# Altium footprint library SYSPCB_03.PCBLIB: 98 footprints (part 3 of 7)
Each footprint in its own frame and in the unit in brackets; x right, y up, seen from the top. Pads: shape width x height; smd on the part's side, far side on the other; paste and mask are expansions set on the pad; w line width, h text height; cw(c..) or ccw(c..) is an arc to the next point about the centre after c.
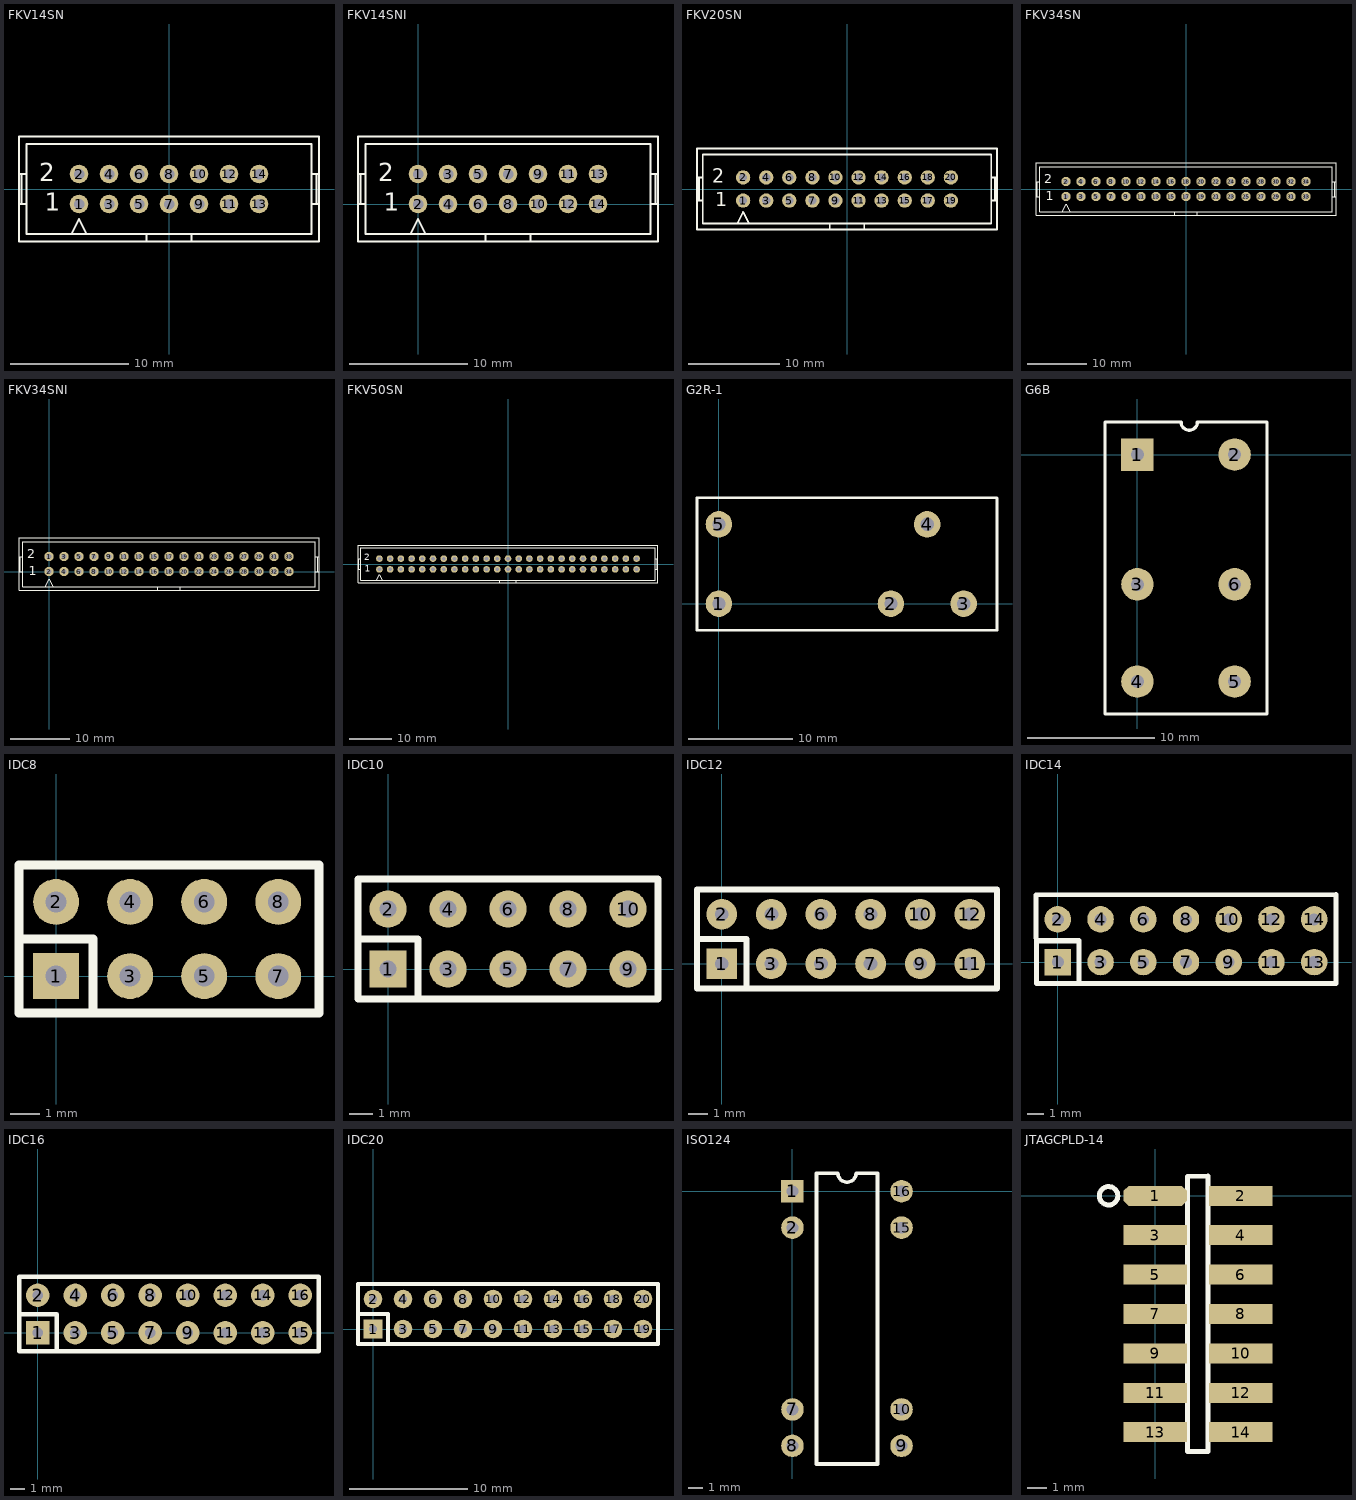
[diagram p2: the footprints below, top view; thin cyan lines are the x and y axes]

## FKV14SN [mil]
pads (14):
  round 62 hole 35: 1(-300,-50) 2(-300,50) 3(-200,-50) 4(-200,50) 5(-100,-50) 6(-100,50) 7(0,-50) 8(0,50) 9(100,-50) 10(100,50) 11(200,-50) 12(200,50) 13(300,-50) 14(300,50)
TopOverlay:
  lines w8: -500,-50 -475,-50 ; -500,50 -475,50 ; -491.67,-50 -491.67,50 ; -325,-150 -300,-100 -275,-150 ; -75,-175 -75,-150 ; 75,-175 75,-150 ; 475,-50 500,-50 ; 475,50 500,50 ; 491.67,-50 491.67,50 ; -75,-150 75,-150 ; -75,-150 -475,-150 -475,150 475,150 475,-150 75,-150 ; -500,-175 500,-175 500,175 -500,175 -500,-175
  text "2" at -432,26 h60
  text "1" at -415,-73 h60

## FKV14SNI [mil]
pads (14):
  round 62 hole 35: 1(0,100) 2(0,0) 3(100,100) 4(100,0) 5(200,100) 6(200,0) 7(300,100) 8(300,0) 9(400,100) 10(400,0) 11(500,100) 12(500,0) 13(600,100) 14(600,0)
TopOverlay:
  lines w8: -200,0 -175,0 ; -200,100 -175,100 ; -191.67,0 -191.67,100 ; -25,-100 0,-50 25,-100 ; 225,-125 225,-100 ; 375,-125 375,-100 ; 775,0 800,0 ; 775,100 800,100 ; 791.67,0 791.67,100 ; 225,-100 375,-100 ; 225,-100 -175,-100 -175,200 775,200 775,-100 375,-100 ; -200,-125 800,-125 800,225 -200,225 -200,-125
  text "2" at -132,76 h60
  text "1" at -115,-23 h60

## FKV20SN [mil]
pads (20):
  round 62 hole 35: 1(-450,-50) 2(-450,50) 3(-350,-50) 4(-350,50) 5(-250,-50) 6(-250,50) 7(-150,-50) 8(-150,50) 9(-50,-50) 10(-50,50) 11(50,-50) 12(50,50) 13(150,-50) 14(150,50) 15(250,-50) 16(250,50) 17(350,-50) 18(350,50) 19(450,-50) 20(450,50)
TopOverlay:
  lines w8: -650,-50 -625,-50 ; -650,50 -625,50 ; -641.67,-50 -641.67,50 ; -475,-150 -450,-100 -425,-150 ; -75,-175 -75,-150 ; 75,-175 75,-150 ; 625,-50 650,-50 ; 625,50 650,50 ; 641.67,-50 641.67,50 ; -75,-150 -625,-150 -625,150 625,150 625,-150 75,-150 ; -75,-150 75,-150 ; -650,-175 -650,175 650,175 650,-175 -650,-175
  text "2" at -585,27 h60
  text "1" at -572,-75 h60

## FKV34SN [mil]
pads (34):
  round 62 hole 35: 1(-800,-50) 2(-800,50) 3(-700,-50) 4(-700,50) 5(-600,-50) 6(-600,50) 7(-500,-50) 8(-500,50) 9(-400,-50) 10(-400,50) 11(-300,-50) 12(-300,50) 13(-200,-50) 14(-200,50) 15(-100,-50) 16(-100,50) 17(0,-50) 18(0,50) 19(100,-50) 20(100,50) 21(200,-50) 22(200,50) 23(300,-50) 24(300,50) 25(400,-50) 26(400,50) 27(500,-50) 28(500,50) 29(600,-50) 30(600,50) 31(700,-50) 32(700,50) 33(800,-50) 34(800,50)
TopOverlay:
  lines w8: -1000,-50 -975,-50 ; -1000,50 -975,50 ; -991.67,-50 -991.67,50 ; -825,-150 -800,-100 -775,-150 ; -75,-175 -75,-150 ; 75,-175 75,-150 ; 975,-50 1000,-50 ; 975,50 1000,50 ; 991.67,-50 991.67,50 ; -75,-150 -975,-150 -975,150 975,150 975,-150 75,-150 ; -75,-150 75,-150 ; -1000,-175 -1000,175 1000,175 1000,-175 -1000,-175
  text "2" at -945,37 h60
  text "1" at -934,-74 h60

## FKV34SNI [mil]
pads (34):
  round 62 hole 35: 1(0,100) 2(0,0) 3(100,100) 4(100,0) 5(200,100) 6(200,0) 7(300,100) 8(300,0) 9(400,100) 10(400,0) 11(500,100) 12(500,0) 13(600,100) 14(600,0) 15(700,100) 16(700,0) 17(800,100) 18(800,0) 19(900,100) 20(900,0) 21(1000,100) 22(1000,0) 23(1100,100) 24(1100,0) 25(1200,100) 26(1200,0) 27(1300,100) 28(1300,0) 29(1400,100) 30(1400,0) 31(1500,100) 32(1500,0) 33(1600,100) 34(1600,0)
TopOverlay:
  lines w8: -200,0 -175,0 ; -200,100 -175,100 ; -191.67,0 -191.67,100 ; -25,-100 0,-50 25,-100 ; 725,-125 725,-100 ; 875,-125 875,-100 ; 1775,0 1800,0 ; 1775,100 1800,100 ; 1791.67,0 1791.67,100 ; 725,-100 875,-100 ; 725,-100 -175,-100 -175,200 1775,200 1775,-100 875,-100 ; -200,-125 1800,-125 1800,225 -200,225 -200,-125
  text "1" at -134,-24 h60
  text "2" at -145,87 h60

## FKV50SN [mil]
pads (50):
  round 62 hole 35: 1(-1200,-50) 2(-1200,50) 3(-1100,-50) 4(-1100,50) 5(-1000,-50) 6(-1000,50) 7(-900,-50) 8(-900,50) 9(-800,-50) 10(-800,50) 11(-700,-50) 12(-700,50) 13(-600,-50) 14(-600,50) 15(-500,-50) 16(-500,50) 17(-400,-50) 18(-400,50) 19(-300,-50) 20(-300,50) 21(-200,-50) 22(-200,50) 23(-100,-50) 24(-100,50) 25(0,-50) 26(0,50) 27(100,-50) 28(100,50) 29(200,-50) 30(200,50) 31(300,-50) 32(300,50) 33(400,-50) 34(400,50) 35(500,-50) 36(500,50) 37(600,-50) 38(600,50) 39(700,-50) 40(700,50) 41(800,-50) 42(800,50) 43(900,-50) 44(900,50) 45(1000,-50) 46(1000,50) 47(1100,-50) 48(1100,50) 49(1200,-50) 50(1200,50)
TopOverlay:
  lines w8: -1400,-50 -1375,-50 ; -1400,50 -1375,50 ; -1391.67,-50 -1391.67,50 ; -1225,-150 -1200,-100 -1175,-150 ; -75,-175 -75,-150 ; 75,-175 75,-150 ; 1375,-50 1400,-50 ; 1375,50 1400,50 ; 1391.67,-50 1391.67,50 ; -75,-150 75,-150 ; -75,-150 -1375,-150 -1375,150 1375,150 1375,-150 75,-150 ; -1400,-175 1400,-175 1400,175 -1400,175 -1400,-175
  text "2" at -1343,34 h60
  text "1" at -1335,-71 h60

## G2R-1 [mil]
pads (5):
  round 100 hole 50: 1(0,0) 2(650,0) 3(925,0) 4(787,300) 5(0,300)
TopOverlay:
  lines w10: 1050,400 -83,400 -83,-100 1051,-100 1051,399

## G6B [mil]
pads (6):
  rect 100x100 hole 40: 1(0,0)
  round 100 hole 40: 2(300,0) 3(0,-400) 4(0,-700) 5(300,-700) 6(300,-400)
TopOverlay:
  lines w10: -100,-800 -100,100 135,100 ccw(c160,100) 185,100 400,100 400,-800 -100,-800

## IDC8 [mil]
pads (8):
  rect 62x62 hole 28: 1(0,0)
  round 62 hole 28: 2(0,100) 3(100,0) 4(100,100) 5(200,0) 6(200,100) 7(300,0) 8(300,100)
TopOverlay:
  lines w12: -50,50 50,50 50,-50 ; -50,-50 -50,150 355,150 355,-50 -50,-50

## IDC10 [mil]
pads (10):
  rect 62x62 hole 28: 1(0,0)
  round 62 hole 28: 2(0,100) 3(100,0) 4(100,100) 5(200,0) 6(200,100) 7(300,0) 8(300,100) 9(400,0) 10(400,100)
TopOverlay:
  lines w12: -50,50 50,50 50,-50 ; -50,-50 450,-50 450,150 -50,150 -50,-50

## IDC12 [mil]
pads (12):
  rect 62x62 hole 28: 1(0,0)
  round 62 hole 28: 2(0,100) 3(100,0) 4(100,100) 5(200,0) 6(200,100) 7(300,0) 8(300,100) 9(400,0) 10(400,100) 11(500,0) 12(500,100)
TopOverlay:
  lines w12: -50,50 50,50 50,-50 ; -50,-50 -50,150 555,150 555,-50 -50,-50

## IDC14 [mil]
pads (14):
  rect 62x62 hole 28: 1(0,0)
  round 62 hole 28: 2(0,100) 3(100,0) 4(100,100) 5(200,0) 6(200,100) 7(300,0) 8(300,100) 9(400,0) 10(400,100) 11(500,0) 12(500,100) 13(600,0) 14(600,100)
TopOverlay:
  lines w12: -50,50 50,50 50,-50 ; -51,157 -50,-50 651,-50 651,158 -51,157

## IDC16 [mil]
pads (16):
  rect 62x62 hole 28: 1(0,0)
  round 62 hole 28: 2(0,100) 3(100,0) 4(100,100) 5(200,0) 6(200,100) 7(300,0) 8(300,100) 9(400,0) 10(400,100) 11(500,0) 12(500,100) 13(600,0) 14(600,100) 15(700,0) 16(700,100)
TopOverlay:
  lines w12: -50,50 50,50 50,-50 ; -50,-50 750,-50 750,150 -50,150 -50,-50

## IDC20 [mil]
pads (20):
  rect 62x62 hole 28: 1(0,0)
  round 62 hole 28: 2(0,100) 3(100,0) 4(100,100) 5(200,0) 6(200,100) 7(300,0) 8(300,100) 9(400,0) 10(400,100) 11(500,0) 12(500,100) 13(600,0) 14(600,100) 15(700,0) 16(700,100) 17(800,0) 18(800,100) 19(900,0) 20(900,100)
TopOverlay:
  lines w12: -50,50 50,50 50,-50 ; -50,-50 -50,150 950,150 950,-50 -50,-50

## ISO124 [mil]
pads (8):
  rect 62x62 hole 32: 1(0,0)
  round 62 hole 32: 2(0,-100) 7(0,-600) 8(0,-700) 9(300,-700) 10(300,-600) 15(300,-100) 16(300,0)
TopOverlay:
  lines w10: 66,-750 66,50 125,50 ccw(c150,50) 175,50 234,50 234,-750 66,-750

## JTAGCPLD-14 [mil]
pads (14):
  oct 127x40 smd: 1(0,0)
  rect 127x40 smd: 2(171,0) 3(0,-78.74) 4(171,-78.74) 5(0,-157.48) 6(171,-157.48) 7(0,-236.22) 8(171,-236.22) 9(0,-314.96) 10(171,-314.96) 11(0,-393.7) 12(171,-393.7) 13(0,-472.44) 14(171,-472.44)
TopOverlay:
  circle w10: c-93.44,0 r18.44
  lines w10: 64,39 105.19,39.37 ; 64,39 105.19,39.37 ; 64,39 64,-511 105,-511 105.19,39.37